# Altium schematic symbol library DS1024-1X6R.SchLib: 1 symbol
Pins are listed as number, name and electrical type; pins without a type are passive.

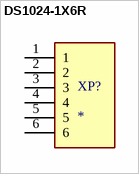
[diagram p0: symbol DS1024-1X6R]

## DS1024-1X6R
designator XP?
MP: 103635-5; Package: None; Price: None; Value: *; Availability: Unavailable
footprint DS1024-1X6R (PBS-08R)
pins: 1, 2, 3, 4, 5, 6